# Altium footprint library PCB1.PcbLib: 44 footprints (part 2 of 3)
Each footprint in its own frame and in the unit in brackets; x right, y up, seen from the top. Pads: shape width x height; smd on the part's side, far side on the other; paste and mask are expansions set on the pad; w line width, h text height; cw(c..) or ccw(c..) is an arc to the next point about the centre after c.
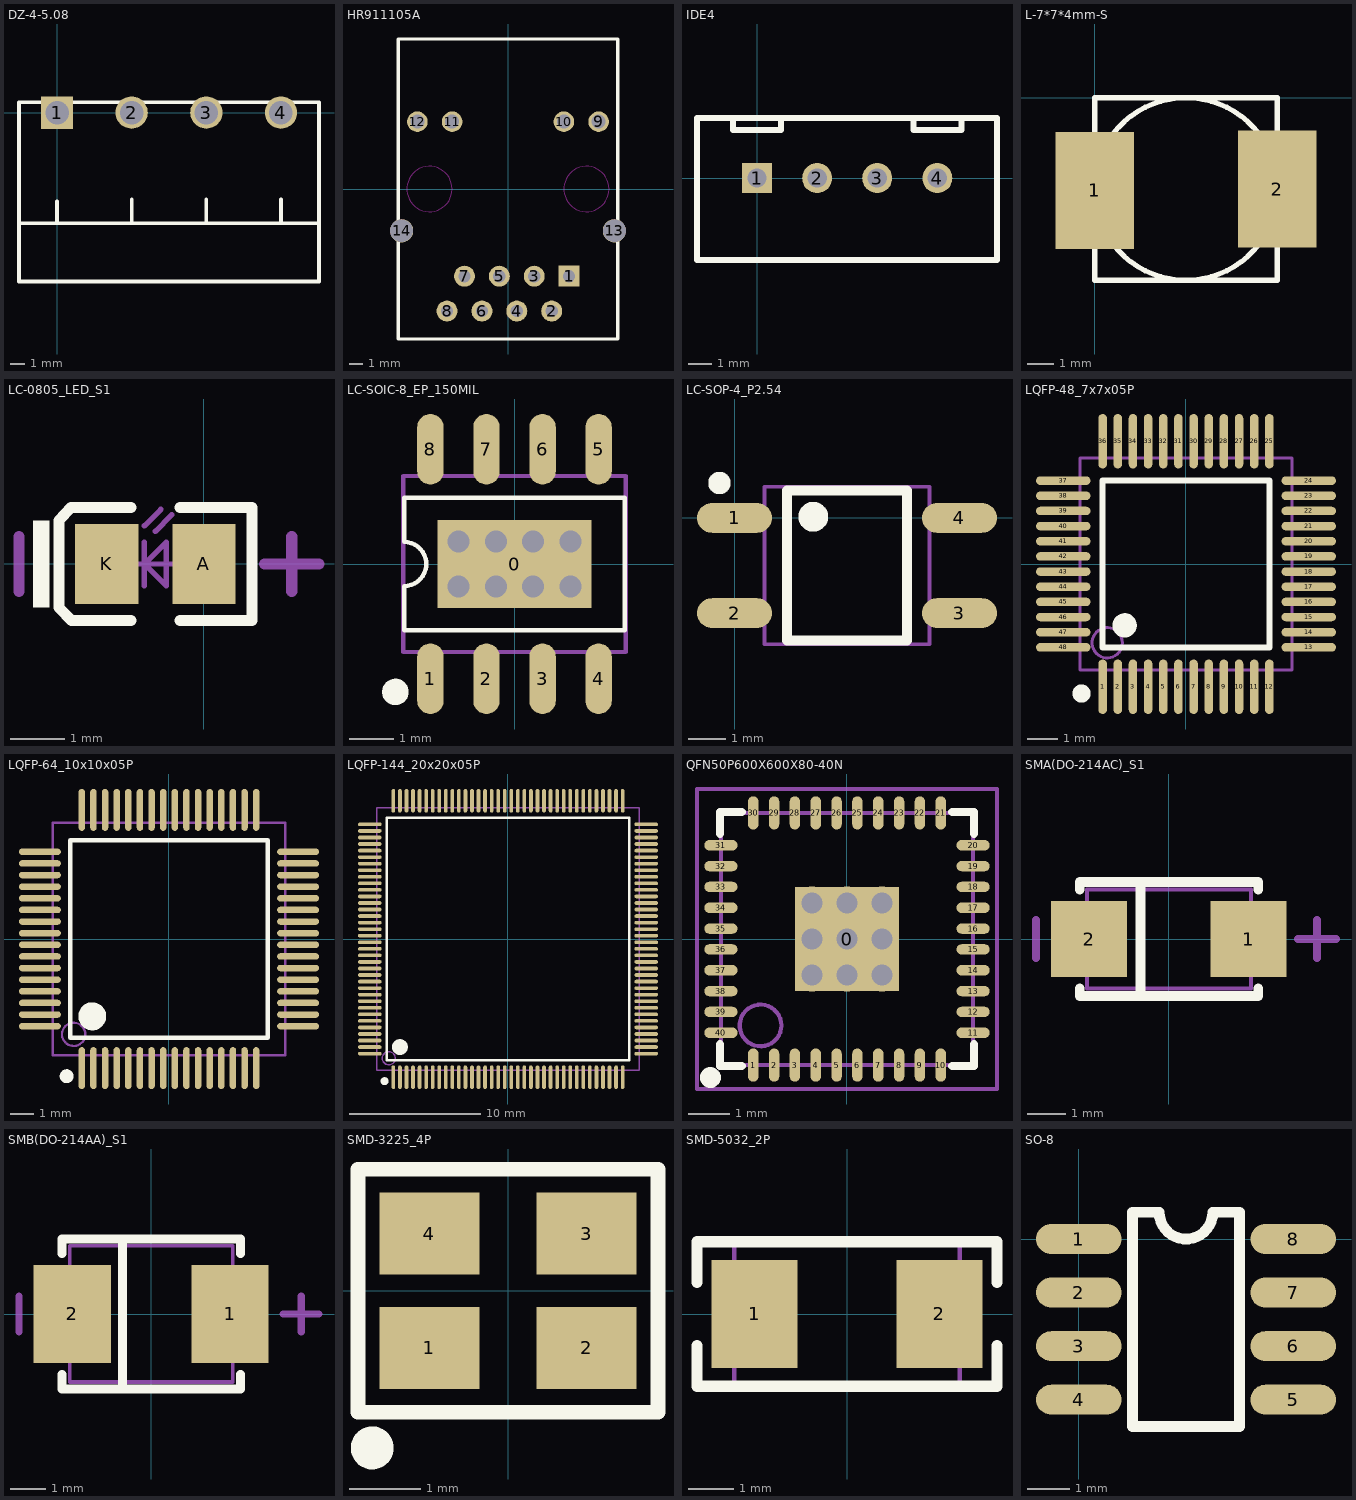
[diagram p1: the footprints below, top view; thin cyan lines are the x and y axes]

## DZ-4-5.08 [mm]
pads (4):
  rect 2.2x2.2 hole 1.6: 1(0,0)
  round 2.2 hole 1.6: 2(5.08,0) 3(10.16,0) 4(15.24,0)
Top Overlay:
  lines w0.254: -2.59,-7.525 7.645,-7.525 12.725,-7.525 17.805,-7.525 ; -2.59,0.689 -2.59,0 -2.59,-11.5 0,-11.5 7.67,-11.5 ; -2.579,0.7 0,0.7 7.67,0.7 ; 0,-7.525 0,-6.052 ; 5.08,-11.5 12.75,-11.5 ; 5.08,-7.525 5.08,-6.052 ; 5.08,-7.5 5.08,-5.9 ; 5.08,0.7 12.75,0.7 ; 10.16,-11.5 17.83,-11.5 17.83,0 17.83,0.675 ; 10.16,-7.525 10.16,-6.052 ; 10.16,0.7 17.83,0.7 ; 15.24,-7.5 15.24,-5.9 ; 10.16,-7.5 10.16,-5.9 10.16,-7.5

## HR911105A [mm]
pads (14):
  rect 1.524x1.524 hole 0.889: 1(4.45,-6.35)
  round 1.524 hole 0.889: 2(3.18,-8.89) 3(1.91,-6.35) 4(0.64,-8.89) 5(-0.63,-6.35) 6(-1.9,-8.89) 7(-3.17,-6.35) 8(-4.44,-8.89)
  round 1.5 hole 1.02: 9(6.6,4.9) 10(4.064,4.9) 11(-4.064,4.9) 12(-6.6,4.9)
  round 1.7 hole 1.65: 13(7.75,-3.048) 14(-7.75,-3.048)
Top Overlay:
  lines w0.254: -8,-10.922 0,-10.922 8,-10.922 8,10.922 0,10.922 -8,10.922 -8,-10.922
Keep-Out Layer:
  circle w0.051: c-5.714,0 r1.65
  circle w0.051: c5.716,0 r1.65

## IDE4 [mil]
pads (4):
  rect 50x50 hole 32: 1(0,0)
  round 50 hole 32: 2(100,0) 3(200,0) 4(300,0)
Top Overlay:
  lines w10: -40,100 -40,80 40,80 40,100 ; 260,100 340,100 ; 260,100 260,80 340,80 340,100 ; 260,100 -100,100 -100,-136.22 299.37,-136.22 399.37,-136.22 399.37,100 340,100

## L-7*7*4mm-S [mm]
height 6
pads (2):
  rect 3x4.5 smd: 1(0,-3.556) 2(7,-3.5)
Top Overlay:
  circle w0.2: c3.5,-3.5 r3.5
  lines w0.2: 0,-7 0,0 7,0 7,-7 0,-7

## LC-0805_LED_S1 [mm]
pads (2):
  rect 1.16x1.47 smd: A(0.001,0) K(-1.779,0)
Top Overlay:
  rectangle: -3.134,-0.8 -2.834,0.8
  lines w0.2: -1.339,-1.035 -2.424,-1.035 -2.659,-0.8 -2.659,0.8 -2.439,1.035 -1.339,1.035 ; -0.439,-1.035 0.881,-1.035 0.881,1.035 -0.439,1.035
Mechanical 13:
  lines w0.1: -1.289,0 -0.489,0 ; -1.089,-0.4 -1.089,0.4 ; -1.089,0.7 -0.789,1 ; -0.889,0.6 -0.589,0.9 ; -1.089,0 -0.689,-0.4 -0.689,0.4 -1.089,0
Mechanical 15:
  lines w0.203: -3.389,-0.5 -3.389,0.5 ; 1.111,0 2.111,0 ; 1.611,-0.5 1.611,0.5
3D body: height 1.1, standoff 0, extent -1.899,-0.625 0.121,0.625

## LC-SOIC-8_EP_150MIL [mm]
pads (9):
  rect 3.5x2 smd: 0(0,0)
  oval 0.6x1.6 smd: 1(-1.905,-2.6) 2(-0.635,-2.6) 3(0.635,-2.6) 4(1.905,-2.6) 5(1.905,2.6) 6(0.635,2.6) 7(-0.635,2.6) 8(-1.905,2.6)
via 1.27,-0.508 diameter 0.8 hole 0.5
via 0.423,-0.508 diameter 0.8 hole 0.5
via -0.423,-0.508 diameter 0.8 hole 0.5
via -1.27,-0.508 diameter 0.8 hole 0.5
via 1.27,0.508 diameter 0.8 hole 0.5
via 0.423,0.508 diameter 0.8 hole 0.5
via -0.423,0.508 diameter 0.8 hole 0.5
via -1.27,0.508 diameter 0.8 hole 0.5
Top Overlay:
  circle w0.3: c-2.7,-2.9 r0.15
  lines w0.1: -2.5,-1.5 -2.5,-0.5 ccw(c-2.5,0) -2.5,0.5 -2.5,1.5 2.5,1.5 2.5,-1.5 -2.5,-1.5
Mechanical 13:
  lines w0.1: -2.525,-1.995 2.525,-1.995 2.525,1.995 -2.525,1.995 -2.525,-1.995

## LC-SOP-4_P2.54 [mm]
pads (4):
  oval 2x0.8 smd: 1(0,0) 2(0,-2.54) 3(6,-2.54) 4(6,0)
Top Overlay:
  circle w0.3: c-0.4,0.93 r0.15
  circle w0.4: c2.1,0.03 r0.2
  lines w0.254: 1.4,-3.27 1.4,0.73 4.6,0.73 4.6,-3.27 1.4,-3.27
Mechanical 13:
  lines w0.1: 0.8,-3.37 0.8,0.83 5.2,0.83 5.2,-3.37 0.8,-3.37

## LQFP-48_7x7x05P [mm]
pads (48):
  oval 0.28x1.8 smd mask+0.051: 1(-2.75,-4.05) 2(-2.25,-4.05) 3(-1.75,-4.05) 4(-1.25,-4.05) 5(-0.75,-4.05) 6(-0.25,-4.05) 7(0.25,-4.05) 8(0.75,-4.05) 9(1.25,-4.05) 10(1.75,-4.05) 11(2.25,-4.05) 12(2.75,-4.05) 25(2.75,4.05) 26(2.25,4.05) 27(1.75,4.05) 28(1.25,4.05) 29(0.75,4.05) 30(0.25,4.05) 31(-0.25,4.05) 32(-0.75,4.05) 33(-1.25,4.05) 34(-1.75,4.05) 35(-2.25,4.05) 36(-2.75,4.05)
  oval 1.8x0.28 smd mask+0.051: 13(4.05,-2.75) 14(4.05,-2.25) 15(4.05,-1.75) 16(4.05,-1.25) 17(4.05,-0.75) 18(4.05,-0.25) 19(4.05,0.25) 20(4.05,0.75) 21(4.05,1.25) 22(4.05,1.75) 23(4.05,2.25) 24(4.05,2.75) 37(-4.05,2.75) 38(-4.05,2.25) 39(-4.05,1.75) 40(-4.05,1.25) 41(-4.05,0.75) 42(-4.05,0.25) 43(-4.05,-0.25) 44(-4.05,-0.75) 45(-4.05,-1.25) 46(-4.05,-1.75) 47(-4.05,-2.25) 48(-4.05,-2.75)
Top Overlay:
  circle w0.4: c-2.025,-2.025 r0.2
  circle w0.3: c-3.45,-4.275 r0.15
  lines w0.2: -2.75,-2.75 -2.75,2.75 2.75,2.75 2.75,-2.75 -2.75,-2.75
Mechanical 13:
  circle w0.1: c-2.6,-2.6 r0.5
  lines w0.1: -3.5,-3.5 -3.5,3.5 3.5,3.5 3.5,-3.5 -3.5,-3.5

## LQFP-64_10x10x05P [mm]
pads (64):
  oval 0.28x1.8 smd mask+0.051: 1(-3.75,-5.55) 2(-3.25,-5.55) 3(-2.75,-5.55) 4(-2.25,-5.55) 5(-1.75,-5.55) 6(-1.25,-5.55) 7(-0.75,-5.55) 8(-0.25,-5.55) 9(0.25,-5.55) 10(0.75,-5.55) 11(1.25,-5.55) 12(1.75,-5.55) 13(2.25,-5.55) 14(2.75,-5.55) 15(3.25,-5.55) 16(3.75,-5.55) 33(3.75,5.55) 34(3.25,5.55) 35(2.75,5.55) 36(2.25,5.55) 37(1.75,5.55) 38(1.25,5.55) 39(0.75,5.55) 40(0.25,5.55) 41(-0.25,5.55) 42(-0.75,5.55) 43(-1.25,5.55) 44(-1.75,5.55) 45(-2.25,5.55) 46(-2.75,5.55) 47(-3.25,5.55) 48(-3.75,5.55)
  oval 1.8x0.28 smd mask+0.051: 17(5.55,-3.75) 18(5.55,-3.25) 19(5.55,-2.75) 20(5.55,-2.25) 21(5.55,-1.75) 22(5.55,-1.25) 23(5.55,-0.75) 24(5.55,-0.25) 25(5.55,0.25) 26(5.55,0.75) 27(5.55,1.25) 28(5.55,1.75) 29(5.55,2.25) 30(5.55,2.75) 31(5.55,3.25) 32(5.55,3.75) 49(-5.55,3.75) 50(-5.55,3.25) 51(-5.55,2.75) 52(-5.55,2.25) 53(-5.55,1.75) 54(-5.55,1.25) 55(-5.55,0.75) 56(-5.55,0.25) 57(-5.55,-0.25) 58(-5.55,-0.75) 59(-5.55,-1.25) 60(-5.55,-1.75) 61(-5.55,-2.25) 62(-5.55,-2.75) 63(-5.55,-3.25) 64(-5.55,-3.75)
Top Overlay:
  circle w0.6: c-3.3,-3.325 r0.3
  circle w0.3: c-4.4,-5.9 r0.15
  lines w0.2: -4.25,-4.25 -4.25,4.25 4.25,4.25 4.25,-4.25 -4.25,-4.25
Mechanical 13:
  circle w0.1: c-4.1,-4.1 r0.5
  lines w0.1: -5,-5 -5,5 5,5 5,-5 -5,-5

## LQFP-144_20x20x05P [mm]
pads (144):
  oval 0.28x1.8 smd mask+0.051: 1(-8.75,-10.55) 2(-8.25,-10.55) 3(-7.75,-10.55) 4(-7.25,-10.55) 5(-6.75,-10.55) 6(-6.25,-10.55) 7(-5.75,-10.55) 8(-5.25,-10.55) 9(-4.75,-10.55) 10(-4.25,-10.55) 11(-3.75,-10.55) 12(-3.25,-10.55) 13(-2.75,-10.55) 14(-2.25,-10.55) 15(-1.75,-10.55) 16(-1.25,-10.55) 17(-0.75,-10.55) 18(-0.25,-10.55) 19(0.25,-10.55) 20(0.75,-10.55) 21(1.25,-10.55) 22(1.75,-10.55) 23(2.25,-10.55) 24(2.75,-10.55) 25(3.25,-10.55) 26(3.75,-10.55) 27(4.25,-10.55) 28(4.75,-10.55) 29(5.25,-10.55) 30(5.75,-10.55) 31(6.25,-10.55) 32(6.75,-10.55) 33(7.25,-10.55) 34(7.75,-10.55) 35(8.25,-10.55) 36(8.75,-10.55) 73(8.75,10.55) 74(8.25,10.55) 75(7.75,10.55) 76(7.25,10.55) 77(6.75,10.55) 78(6.25,10.55) 79(5.75,10.55) 80(5.25,10.55) 81(4.75,10.55) 82(4.25,10.55) 83(3.75,10.55) 84(3.25,10.55) 85(2.75,10.55) 86(2.25,10.55) 87(1.75,10.55) 88(1.25,10.55) 89(0.75,10.55) 90(0.25,10.55) 91(-0.25,10.55) 92(-0.75,10.55) 93(-1.25,10.55) 94(-1.75,10.55) 95(-2.25,10.55) 96(-2.75,10.55) 97(-3.25,10.55) 98(-3.75,10.55) 99(-4.25,10.55) 100(-4.75,10.55) 101(-5.25,10.55) 102(-5.75,10.55) 103(-6.25,10.55) 104(-6.75,10.55) 105(-7.25,10.55) 106(-7.75,10.55) 107(-8.25,10.55) 108(-8.75,10.55)
  oval 1.8x0.28 smd mask+0.051: 37(10.55,-8.75) 38(10.55,-8.25) 39(10.55,-7.75) 40(10.55,-7.25) 41(10.55,-6.75) 42(10.55,-6.25) 43(10.55,-5.75) 44(10.55,-5.25) 45(10.55,-4.75) 46(10.55,-4.25) 47(10.55,-3.75) 48(10.55,-3.25) 49(10.55,-2.75) 50(10.55,-2.25) 51(10.55,-1.75) 52(10.55,-1.25) 53(10.55,-0.75) 54(10.55,-0.25) 55(10.55,0.25) 56(10.55,0.75) 57(10.55,1.25) 58(10.55,1.75) 59(10.55,2.25) 60(10.55,2.75) 61(10.55,3.25) 62(10.55,3.75) 63(10.55,4.25) 64(10.55,4.75) 65(10.55,5.25) 66(10.55,5.75) 67(10.55,6.25) 68(10.55,6.75) 69(10.55,7.25) 70(10.55,7.75) 71(10.55,8.25) 72(10.55,8.75) 109(-10.55,8.75) 110(-10.55,8.25) 111(-10.55,7.75) 112(-10.55,7.25) 113(-10.55,6.75) 114(-10.55,6.25) 115(-10.55,5.75) 116(-10.55,5.25) 117(-10.55,4.75) 118(-10.55,4.25) 119(-10.55,3.75) 120(-10.55,3.25) 121(-10.55,2.75) 122(-10.55,2.25) 123(-10.55,1.75) 124(-10.55,1.25) 125(-10.55,0.75) 126(-10.55,0.25) 127(-10.55,-0.25) 128(-10.55,-0.75) 129(-10.55,-1.25) 130(-10.55,-1.75) 131(-10.55,-2.25) 132(-10.55,-2.75) 133(-10.55,-3.25) 134(-10.55,-3.75) 135(-10.55,-4.25) 136(-10.55,-4.75) 137(-10.55,-5.25) 138(-10.55,-5.75) 139(-10.55,-6.25) 140(-10.55,-6.75) 141(-10.55,-7.25) 142(-10.55,-7.75) 143(-10.55,-8.25) 144(-10.55,-8.75)
Top Overlay:
  circle w0.6: c-8.25,-8.25 r0.3
  circle w0.3: c-9.425,-10.85 r0.15
  lines w0.2: -9.25,-9.25 9.25,-9.25 9.25,9.25 -9.25,9.25 -9.25,-9.25
Mechanical 13:
  circle w0.1: c-9.1,-9.1 r0.5
  lines w0.1: -10,-10 10,-10 10,10 -10,10 -10,-10

## QFN50P600X600X80-40N [mm] "QFN, 40-Leads, Body 6.1x6.1mm (max), Pitch 0."
height 0.8
pads (41):
  rect 2.5x2.5 smd: 0(0,0)
  oval 0.25x0.8 smd: 1(-2.25,-3.025) 2(-1.75,-3.025) 3(-1.25,-3.025) 4(-0.75,-3.025) 5(-0.25,-3.025) 6(0.25,-3.025) 7(0.75,-3.025) 8(1.25,-3.025) 9(1.75,-3.025) 10(2.25,-3.025) 21(2.25,3.025) 22(1.75,3.025) 23(1.25,3.025) 24(0.75,3.025) 25(0.25,3.025) 26(-0.25,3.025) 27(-0.75,3.025) 28(-1.25,3.025) 29(-1.75,3.025) 30(-2.25,3.025)
  oval 0.8x0.25 smd: 11(3.025,-2.25) 12(3.025,-1.75) 13(3.025,-1.25) 14(3.025,-0.75) 15(3.025,-0.25) 16(3.025,0.25) 17(3.025,0.75) 18(3.025,1.25) 19(3.025,1.75) 20(3.025,2.25) 31(-3.025,2.25) 32(-3.025,1.75) 33(-3.025,1.25) 34(-3.025,0.75) 35(-3.025,0.25) 36(-3.025,-0.25) 37(-3.025,-0.75) 38(-3.025,-1.25) 39(-3.025,-1.75) 40(-3.025,-2.25)
via -0.838,-0.864 diameter 0.8 hole 0.5
via -0.838,0.864 diameter 0.8 hole 0.5
via -0.838,0 diameter 0.8 hole 0.5
via 0.838,-0.864 diameter 0.8 hole 0.5
via 0.838,0 diameter 0.8 hole 0.5
via 0.838,0.864 diameter 0.8 hole 0.5
via 0,-0.864 diameter 0.8 hole 0.5
via 0,0 diameter 0.8 hole 0.5
via 0,0.864 diameter 0.8 hole 0.5
Top Overlay:
  circle w0.25: c-3.277,-3.325 r0.125
  lines w0.2: -3.05,-2.525 -3.05,-3.05 -2.525,-3.05 ; -3.05,2.525 -3.05,3.05 -2.525,3.05 ; 2.525,-3.05 3.05,-3.05 3.05,-2.525 ; 2.525,3.05 3.05,3.05 3.05,2.525
Mechanical 13:
  circle w0.1: c-2.075,-2.075 r0.5
  lines w0.1: -3.025,-3.025 -3.025,3.025 3.025,3.025 3.025,-3.025 -3.025,-3.025
Mechanical 15:
  lines w0.1: -0.5,0 0.5,0 ; 0,-0.5 0,0.5 ; -3.6,-3.6 -3.6,3.6 3.6,3.6 3.6,-3.6 -3.6,-3.6
3D body: height 0.8, standoff 0.01, extent -3.025,-3.025 3.025,3.025

## SMA(DO-214AC)_S1 [mm]
pads (2):
  rect 2x2 smd: 1(2.1,0) 2(-2.1,0)
Top Overlay:
  lines w0.254: -2.35,-1.3 -2.35,-1.5 2.35,-1.5 2.35,-1.3 ; -2.35,1.3 -2.35,1.5 2.35,1.5 2.35,1.3 ; -0.75,-1.5 -0.75,1.5
Mechanical 13:
  lines w0.1: -2.16,-1.3 -2.16,1.3 2.16,1.3 2.16,-1.3 -2.16,-1.3
Mechanical 15:
  lines w0.203: -3.5,-0.5 -3.5,0.5 ; 3.4,0 4.4,0 ; 3.9,-0.5 3.9,0.5

## SMB(DO-214AA)_S1 [mm]
pads (2):
  rect 2.159x2.743 smd: 1(2.21,0) 2(-2.21,0)
Top Overlay:
  lines w0.254: -2.5,-1.7 -2.5,-2.1 2.5,-2.1 2.5,-1.7 ; -2.5,1.7 -2.5,2.1 2.5,2.1 2.5,1.7 ; -0.8,-2.1 -0.8,2.1
Mechanical 13:
  lines w0.1: -2.285,-1.905 -2.285,1.905 2.285,1.905 2.285,-1.905 -2.285,-1.905
Mechanical 15:
  lines w0.203: -3.7,-0.5 -3.7,0.5 ; 3.7,0 4.7,0 ; 4.2,-0.5 4.2,0.5

## SMD-3225_4P [mm]
pads (4):
  rect 1.4x1.15 smd: 1(-1.1,-0.8) 2(1.1,-0.8) 3(1.1,0.8) 4(-1.1,0.8)
Top Overlay:
  circle w0.3: c-1.9,-2.2 r0.15
  lines w0.203: -2.1,-1.7 -2.1,1.7 2.1,1.7 2.1,-1.7 -2.1,-1.7
3D body: height 0.61, standoff 0, extent -1.6,-1.25 1.6,1.25

## SMD-5032_2P [mm]
pads (2):
  rect 1.9x2.4 smd: 1(-2.05,0) 2(2.05,0)
Top Overlay:
  lines w0.254: -3.325,-0.7 -3.325,-1.6 3.325,-1.6 3.325,-0.7 ; -3.325,0.7 -3.325,1.6 3.325,1.6 3.325,0.7
Mechanical 13:
  lines w0.1: -2.5,-1.6 -2.5,1.6 2.5,1.6 2.5,-1.6 -2.5,-1.6

## SO-8 [mil]
pads (8):
  oval 80x28 smd: 1(0,0) 2(0,-50) 3(0,-100) 4(0,-150) 5(200,-150) 6(200,-100) 7(200,-50) 8(200,0)
Top Overlay:
  lines w10: 72,25 50,25 50,-175 150,-175 150,25 125,25 cw(c100,25) 75,25